# Altium footprint library FSM4JH.PcbLib: 1 footprints
Each footprint in its own frame and in the unit in brackets; x right, y up, seen from the top. Pads: shape width x height; smd on the part's side, far side on the other; paste and mask are expansions set on the pad; w line width, h text height; cw(c..) or ccw(c..) is an arc to the next point about the centre after c.
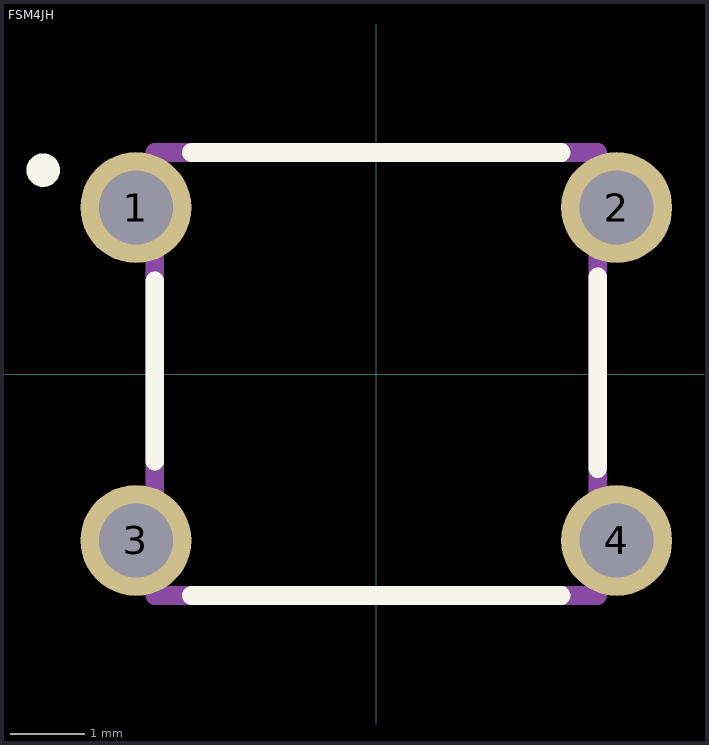
[diagram p0: the footprint, top view; thin cyan lines are the x and y axes]

## FSM4JH [mm]
pads (4):
  round 1.5 hole 1: 1(-3.25,2.25) 2(3.25,2.25) 3(-3.25,-2.25) 4(3.25,-2.25)
Top Overlay:
  circle w0.254: c-4.504,2.757 r0.099
  lines w0.254: -2.995,-1.18 -2.995,1.256 ; -2.5,-2.995 2.5,-2.995 ; -2.5,2.995 2.5,2.995 ; 2.995,-1.279 2.995,1.312
Mechanical 15:
  lines w0.254: -2.995,-2.995 2.995,-2.995 2.995,2.995 -2.995,2.995 -2.995,-2.995
3D body "FSM4JH.stp": height 5.8, standoff -4.65, extent -10,-3.376 10,3.376